# EAGLE library part CSSTC (library utesla)
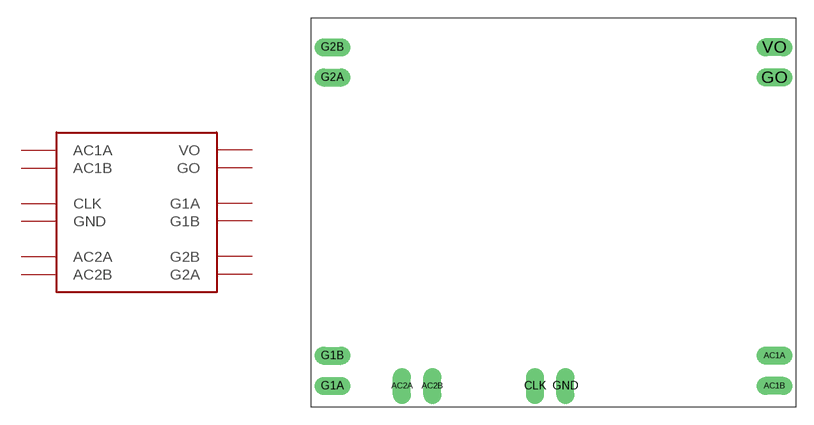
[diagram p9: symbol with the pads of CSSTC; footprint CSSTC]

Designator prefix -

## CSSTC  [CSSTC]
AC1A  AC1A
AC1B  AC1B
AC2A  AC2A
AC2B  AC2B
CLK  CLK
G1A  G1A
G1B  G1B
G2A  G2A
G2B  G2B
GND  GND
GO  GO
VO  VO

## Footprint CSSTC (pad centres in mm)
drill 1 long: AC1A 2.794,-8.128; AC1B 2.794,-10.668; AC2A -28.448,-10.668; AC2B -25.908,-10.668; CLK -17.272,-10.668; G1A -34.29,-10.668; G1B -34.29,-8.128; G2A -34.29,15.24; G2B -34.29,17.78; GND -14.732,-10.668; GO 2.794,15.24; VO 2.794,17.78